# Altium schematic symbol library stm8.SchLib: 7 symbols
Pins are listed as number, name and electrical type; pins without a type are passive.

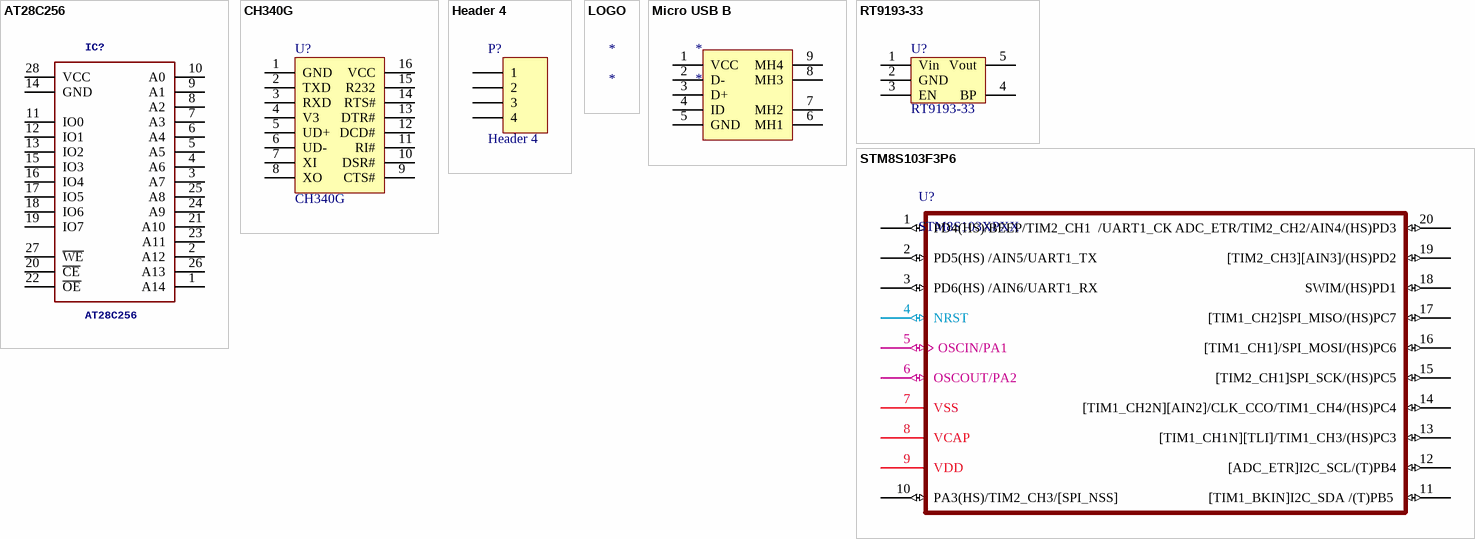
[diagram p0: symbols AT28C256 to STM8S103F3P6]

## AT28C256
designator IC?
EEPROM 32Kx8 256k bit   The AT28C256 is a high-performance Electrically Erasable and Programmable Read Only Memory. Its 256K of memory is organized as 32,768 words by 8 bits.
footprint DIP28-600 (37.3*15.3*4长宽高）)
pins: 1 A14, 2 A12, 3 A7, 4 A6, 5 A5, 6 A4, 7 A3, 8 A2, 9 A1, 10 A0, 11 IO0, 12 IO1, 13 IO2, 14 GND, 15 IO3, 16 IO4, 17 IO5, 18 IO6, 19 IO7, 20 ~{CE}, 21 A10, 22 ~{OE}, 23 A11, 24 A9, 25 A8, 26 A13, 27 ~{WE}, 28 VCC

## CH340G
designator U?
footprint CH340G
pins: 1 GND, 2 TXD, 3 RXD, 4 V3, 5 UD+, 6 UD-, 7 XI, 8 XO, 9 CTS#, 10 DSR#, 11 RI#, 12 DCD#, 13 DTR#, 14 RTS#, 15 R232, 16 VCC

## Header 4
designator P?
Header, 4-Pin; LatestRevisionDate: 17-Jul-2002; LatestRevisionNote: Re-released for DXP Platform.; Publisher: Altium Limited
footprint p4
signal-integrity model Connector
footprint HEADER_4x1
pins: 1, 2, 3, 4

## LOGO
designator *

## Micro USB B
designator *
pins: 1 VCC, 2 D-, 3 D+, 4 ID, 5 GND, 6 MH1, 7 MH2, 8 MH3, 9 MH4

## RT9193-33
designator U?
footprint SOT23-5 (Max4173)
pins: 1 Vin, 2 GND, 3 EN, 4 BP, 5 Vout

## STM8S103F3P6
designator U?, comment STM8S103XPXX
ST 8-bit  Microcontroller
footprint TSSOP20 (20-pin, 4.40 mm body, 0.65 mm pitch)
pins: 1 PD4(HS)/BEEP/TIM2_CH1  /UART1_CK (io), 2 PD5(HS) /AIN5/UART1_TX (io), 3 PD6(HS) /AIN6/UART1_RX (io), 4 NRST (io), 5 OSCIN/PA1 (io), 6 OSCOUT/PA2 (io), 7 VSS (power), 8 VCAP (power), 9 VDD (power), 10 PA3(HS)/TIM2_CH3/[SPI_NSS]   (io), 11 [TIM1_BKIN]I2C_SDA /(T)PB5  (io), 12 [ADC_ETR]I2C_SCL/(T)PB4 (io), 13 [TIM1_CH1N][TLI]/TIM1_CH3/(HS)PC3 (io), 14 [TIM1_CH2N][AIN2]/CLK_CCO/TIM1_CH4/(HS)PC4 (io), 15 [TIM2_CH1]SPI_SCK/(HS)PC5 (io), 16 [TIM1_CH1]/SPI_MOSI/(HS)PC6 (io), 17 [TIM1_CH2]SPI_MISO/(HS)PC7 (io), 18 SWIM/(HS)PD1 (io), 19 [TIM2_CH3][AIN3]/(HS)PD2 (io), 20 ADC_ETR/TIM2_CH2/AIN4/(HS)PD3 (io)